# Altium footprint library AVR.PcbLib: 2 footprints
Each footprint in its own frame and in the unit in brackets; x right, y up, seen from the top. Pads: shape width x height; smd on the part's side, far side on the other; paste and mask are expansions set on the pad; w line width, h text height; cw(c..) or ccw(c..) is an arc to the next point about the centre after c.
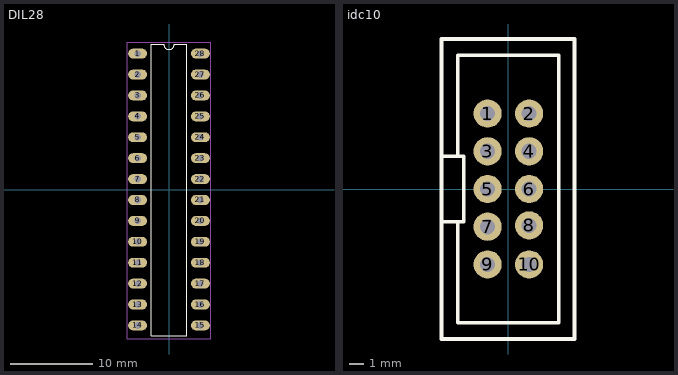
[diagram p0: the footprints below, top view; thin cyan lines are the x and y axes]

## DIL28 [mm]
pads (28):
  oval 2.3x1.2 hole 0.813: 1(-3.81,16.51) 2(-3.81,13.97) 3(-3.81,11.43) 4(-3.81,8.89) 5(-3.81,6.35) 6(-3.81,3.81) 7(-3.81,1.27) 8(-3.81,-1.27) 9(-3.81,-3.81) 10(-3.81,-6.35) 11(-3.81,-8.89) 12(-3.81,-11.43) 13(-3.81,-13.97) 14(-3.81,-16.51) 15(3.81,-16.51) 16(3.81,-13.97) 17(3.81,-11.43) 18(3.81,-8.89) 19(3.81,-6.35) 20(3.81,-3.81) 21(3.81,-1.27) 22(3.81,1.27) 23(3.81,3.81) 24(3.81,6.35) 25(3.81,8.89) 26(3.81,11.43) 27(3.81,13.97) 28(3.81,16.51)
Top Overlay:
  lines w0.127: -2.159,-17.78 2.159,-17.78 2.159,17.653 0.635,17.653 cw(c0,17.653) -0.635,17.653 -2.159,17.653 -2.159,-17.78
Mechanical 15:
  lines w0.05: -5.08,-18.161 5.08,-18.161 5.08,-9.049 5.08,8.668 5.08,17.907 -5.08,17.907 -5.08,-18.161
3D body "ATMEGA328P-PU.step": height 5.2, standoff -3, extent -3.808,-17.747 4.062,17.653

## idc10 [mm]
pads (10):
  round 1.9 hole 1.016 unplated: 1(-1.397,5.08) 2(1.397,5.08) 3(-1.397,2.54) 4(1.397,2.54) 5(-1.397,0) 6(1.397,0) 7(-1.397,-2.54) 8(1.397,-2.45) 9(-1.397,-5.08) 10(1.397,-5.08)
Top Overlay:
  lines w0.25: -4.5,-10.1 -4.5,10.1 ; -4.5,-2.2 -3,-2.2 -3,2.2 -4.5,2.2 ; -4.45,10.1 4.45,10.1 4.45,-10.1 ; -4.445,-10.1 4.445,-10.1 ; -3.4,-2.2 -3.4,-9 3.4,-9 3.4,9 -3.4,9 -3.4,2.2 ; 4.445,10.1 4.445,0 4.45,0
3D body "SPI.STEP": height 8, standoff -4, extent -4.572,-10.1 4.428,10.1